# EAGLE library part LD8035E (library LD8035E)
7-segment vacuum fluorescent display
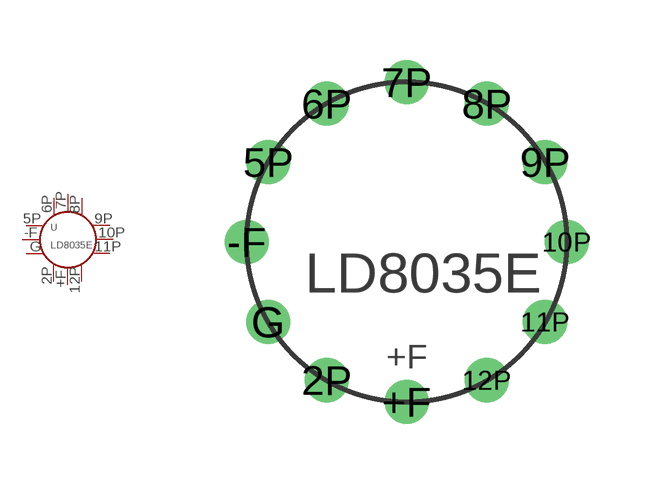
[diagram p0: symbol with the pads of LD8035E; footprint LD8035E]

Designator prefix -

## LD8035E  [LD8035E]
2P  2P
5P  5P
6P  6P
7P  7P
8P  8P
9P  9P
10P  10P
11P  11P
12P  12P
+F  +F
-F  -F
G  G

## Footprint LD8035E (pad centres in mm)
7-segment vacuum fluorescent display
drill 0.6: 2P -2,-3.46; 5P -3.46,2; 6P -2,3.46; 7P 0,4; 8P 2,3.46; 9P 3.46,2; 10P 4,0; 11P 3.46,-2; 12P 2,-3.46; +F 0,-4; -F -4,0; G -3.46,-2